# EAGLE library part M07 (library custom-connectors)
7-Way Connector
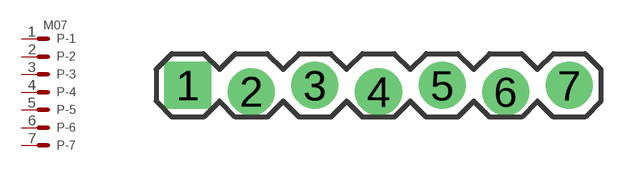
[diagram p11: symbol with the pads of 1X07_LOCK; footprint 1X07_LOCK]

Designator prefix P; gates -1=MV -2=M -3=M -4=M -5=M -6=M -7=M

## M07_SIP  [1X07_LOCK]
1  -1:S  pas
2  -2:S  pas
3  -3:S  pas
4  -4:S  pas
5  -5:S  pas
6  -6:S  pas
7  -7:S  pas

## Footprint 1X07_LOCK (pad centres in mm)
drill 1.016 pad 1.88 square: 1 -7.62,0
drill 1.016 pad 1.88: 2 -5.08,-0.254; 3 -2.54,0; 4 0,-0.254; 5 2.54,0; 6 5.08,-0.254; 7 7.62,0